# Altium integrated library ATMEGA2560.IntLib: 1 symbol
Pins are listed as number, name and electrical type; pins without a type are passive.

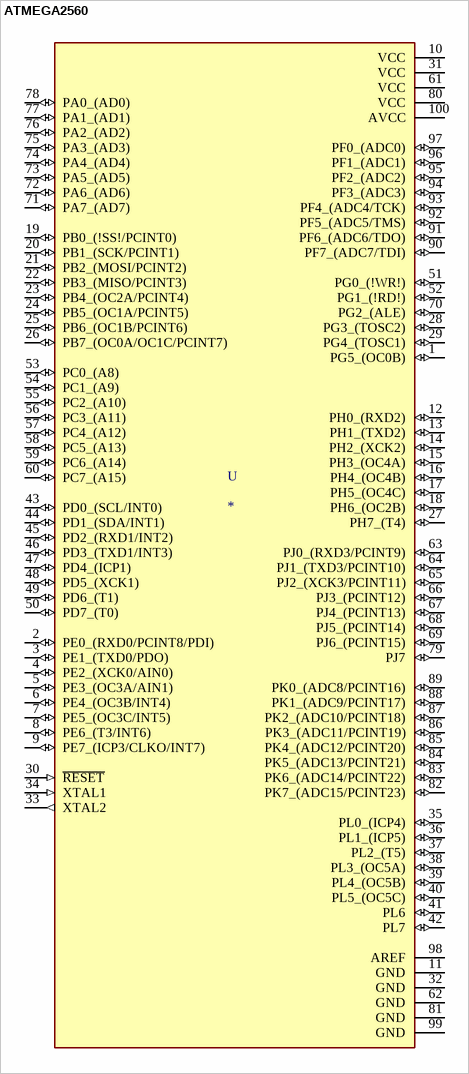
[diagram p0: symbol ATMEGA2560]

## ATMEGA2560
designator U
AVR AVRÂ® ATmega Microcontroller IC 8-Bit 16MHz 256KB _128K x 16_ FLASH 100-TQFP _14x14_; MP: ATMEGA2560; MF: Microchip; Package: TQFP-100 Microchip; Price: None; Availability: Unavailable; SnapEDA_Link: https://www.snapeda.com/parts/ATMEGA2560/Microchip/view-part/552105/?ref=snap; Value: *
footprint QFP50P1600X1600X120-100N
pins: 1 PG5_(OC0B) (io), 2 PE0_(RXD0/PCINT8/PDI) (io), 3 PE1_(TXD0/PDO) (io), 4 PE2_(XCK0/AIN0) (io), 5 PE3_(OC3A/AIN1) (io), 6 PE4_(OC3B/INT4) (io), 7 PE5_(OC3C/INT5) (io), 8 PE6_(T3/INT6) (io), 9 PE7_(ICP3/CLKO/INT7) (io), 10 VCC (power), 11 GND (power), 12 PH0_(RXD2) (io), 13 PH1_(TXD2) (io), 14 PH2_(XCK2) (io), 15 PH3_(OC4A) (io), 16 PH4_(OC4B) (io), 17 PH5_(OC4C) (io), 18 PH6_(OC2B) (io), 19 PB0_(!SS!/PCINT0) (io), 20 PB1_(SCK/PCINT1) (io), 21 PB2_(MOSI/PCINT2) (io), 22 PB3_(MISO/PCINT3) (io), 23 PB4_(OC2A/PCINT4) (io), 24 PB5_(OC1A/PCINT5) (io), 25 PB6_(OC1B/PCINT6) (io), 26 PB7_(OC0A/OC1C/PCINT7) (io), 27 PH7_(T4) (io), 28 PG3_(TOSC2) (io), 29 PG4_(TOSC1) (io), 30 ~{RESET} (in), 31 VCC (power), 32 GND (power), 33 XTAL2 (out), 34 XTAL1 (in), 35 PL0_(ICP4) (io), 36 PL1_(ICP5) (io), 37 PL2_(T5) (io), 38 PL3_(OC5A) (io), 39 PL4_(OC5B) (io), 40 PL5_(OC5C) (io), 41 PL6 (io), 42 PL7 (io), 43 PD0_(SCL/INT0) (io), 44 PD1_(SDA/INT1) (io), 45 PD2_(RXD1/INT2) (io), 46 PD3_(TXD1/INT3) (io), 47 PD4_(ICP1) (io), 48 PD5_(XCK1) (io), 49 PD6_(T1) (io), 50 PD7_(T0) (io), 51 PG0_(!WR!) (io), 52 PG1_(!RD!) (io), 53 PC0_(A8) (io), 54 PC1_(A9) (io), 55 PC2_(A10) (io), 56 PC3_(A11) (io), 57 PC4_(A12) (io), 58 PC5_(A13) (io), 59 PC6_(A14) (io), 60 PC7_(A15) (io), 61 VCC (power), 62 GND (power), 63 PJ0_(RXD3/PCINT9) (io), 64 PJ1_(TXD3/PCINT10) (io), 65 PJ2_(XCK3/PCINT11) (io), 66 PJ3_(PCINT12) (io), 67 PJ4_(PCINT13) (io), 68 PJ5_(PCINT14) (io), 69 PJ6_(PCINT15) (io), 70 PG2_(ALE) (io), 71 PA7_(AD7) (io), 72 PA6_(AD6) (io), 73 PA5_(AD5) (io), 74 PA4_(AD4) (io), 75 PA3_(AD3) (io), 76 PA2_(AD2) (io), 77 PA1_(AD1) (io), 78 PA0_(AD0) (io), 79 PJ7 (io), 80 VCC (power), 81 GND (power), 82 PK7_(ADC15/PCINT23) (io), 83 PK6_(ADC14/PCINT22) (io), 84 PK5_(ADC13/PCINT21) (io), 85 PK4_(ADC12/PCINT20) (io), 86 PK3_(ADC11/PCINT19) (io), 87 PK2_(ADC10/PCINT18) (io), 88 PK1_(ADC9/PCINT17) (io), 89 PK0_(ADC8/PCINT16) (io), 90 PF7_(ADC7/TDI) (io), 91 PF6_(ADC6/TDO) (io), 92 PF5_(ADC5/TMS) (io), 93 PF4_(ADC4/TCK) (io), 94 PF3_(ADC3) (io), 95 PF2_(ADC2) (io), 96 PF1_(ADC1) (io), 97 PF0_(ADC0) (io), 98 AREF (power), 99 GND (power), 100 AVCC (power)